# Altium schematic symbol library TLV5618.SchLib: 1 symbol
Pins are listed as number, name and electrical type; pins without a type are passive.

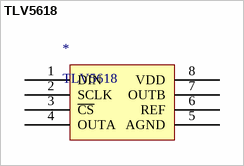
[diagram p0: symbol TLV5618]

## TLV5618
designator *
footprint DIP8
pins: 1 DIN, 2 SCLK, 3 ~{CS}, 4 OUTA, 5 AGND, 6 REF, 7 OUTB, 8 VDD